# EAGLE library part ATSAMD21E18A-AU_ATSAMD21E18A-AU (library FN_001)
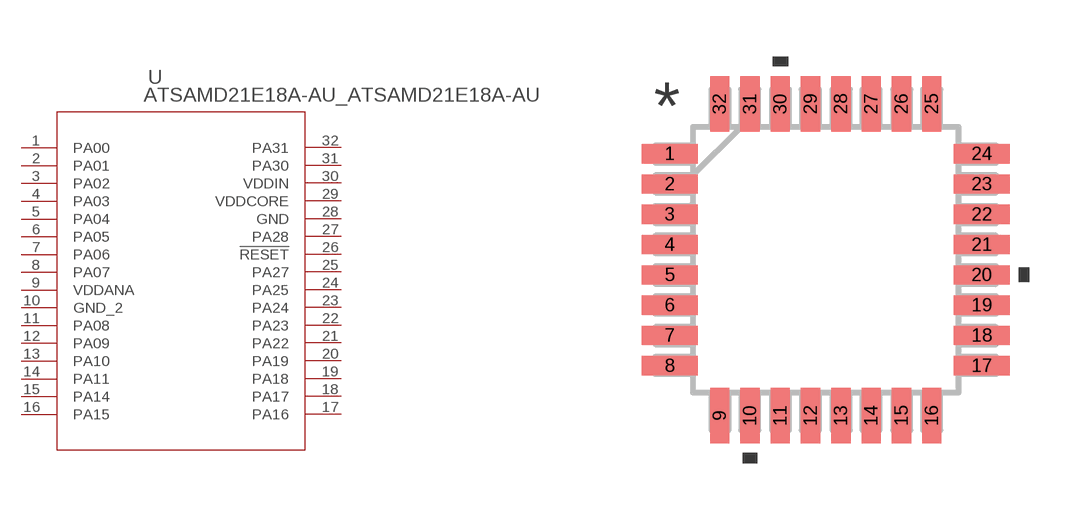
[diagram p0: symbol with the pads of ATSAMD21E18A-AU_TQFP32_MC_MCH; footprint ATSAMD21E18A-AU_TQFP32_MC_MCH]

Designator prefix U

## ATSAMD21E18A-AU_ATSAMD21E18A-AU (BUILT_BY: EMA_Molly; COPYRIGHT: Copyright (C) 2018 Accelerated Designs. All rights reserved; MANUFACTURER_PART_NUMBER: ATSAMD21E18A-AU; SOURCELIBRARY: Microchip_2019-08-23_25; VENDOR: Microchip)  [ATSAMD21E18A-AU_TQFP32_MC_MCH]
1  PA00
2  PA01
3  PA02
4  PA03
5  PA04
6  PA05
7  PA06
8  PA07
9  VDDANA  pwr
10  GND_2  pas
11  PA08
12  PA09
13  PA10
14  PA11
15  PA14
16  PA15
17  PA16
18  PA17
19  PA18
20  PA19
21  PA22
22  PA23
23  PA24
24  PA25
25  PA27
26  !RESET  pas
27  PA28
28  GND  pas
29  VDDCORE  pwr
30  VDDIN  pwr
31  PA30
32  PA31

## Footprint ATSAMD21E18A-AU_TQFP32_MC_MCH (pad centres in mm)
smd 1.473 x 0.508: 1 -4.119,2.8; 2 -4.119,2; 3 -4.119,1.2; 4 -4.119,0.4; 5 -4.119,-0.4; 6 -4.119,-1.2; 7 -4.119,-2; 8 -4.119,-2.8; 17 4.119,-2.8; 18 4.119,-2; 19 4.119,-1.2; 20 4.119,-0.4; 21 4.119,0.4; 22 4.119,1.2; 23 4.119,2; 24 4.119,2.8
smd 0.508 x 1.473: 9 -2.8,-4.119; 10 -2,-4.119; 11 -1.2,-4.119; 12 -0.4,-4.119; 13 0.4,-4.119; 14 1.2,-4.119; 15 2,-4.119; 16 2.8,-4.119; 25 2.8,4.119; 26 2,4.119; 27 1.2,4.119; 28 0.4,4.119; 29 -0.4,4.119; 30 -1.2,4.119; 31 -2,4.119; 32 -2.8,4.119